# Altium footprint library ECE453_Power.PcbLib: 12 footprints
Each footprint in its own frame and in the unit in brackets; x right, y up, seen from the top. Pads: shape width x height; smd on the part's side, far side on the other; paste and mask are expansions set on the pad; w line width, h text height; cw(c..) or ccw(c..) is an arc to the next point about the centre after c.
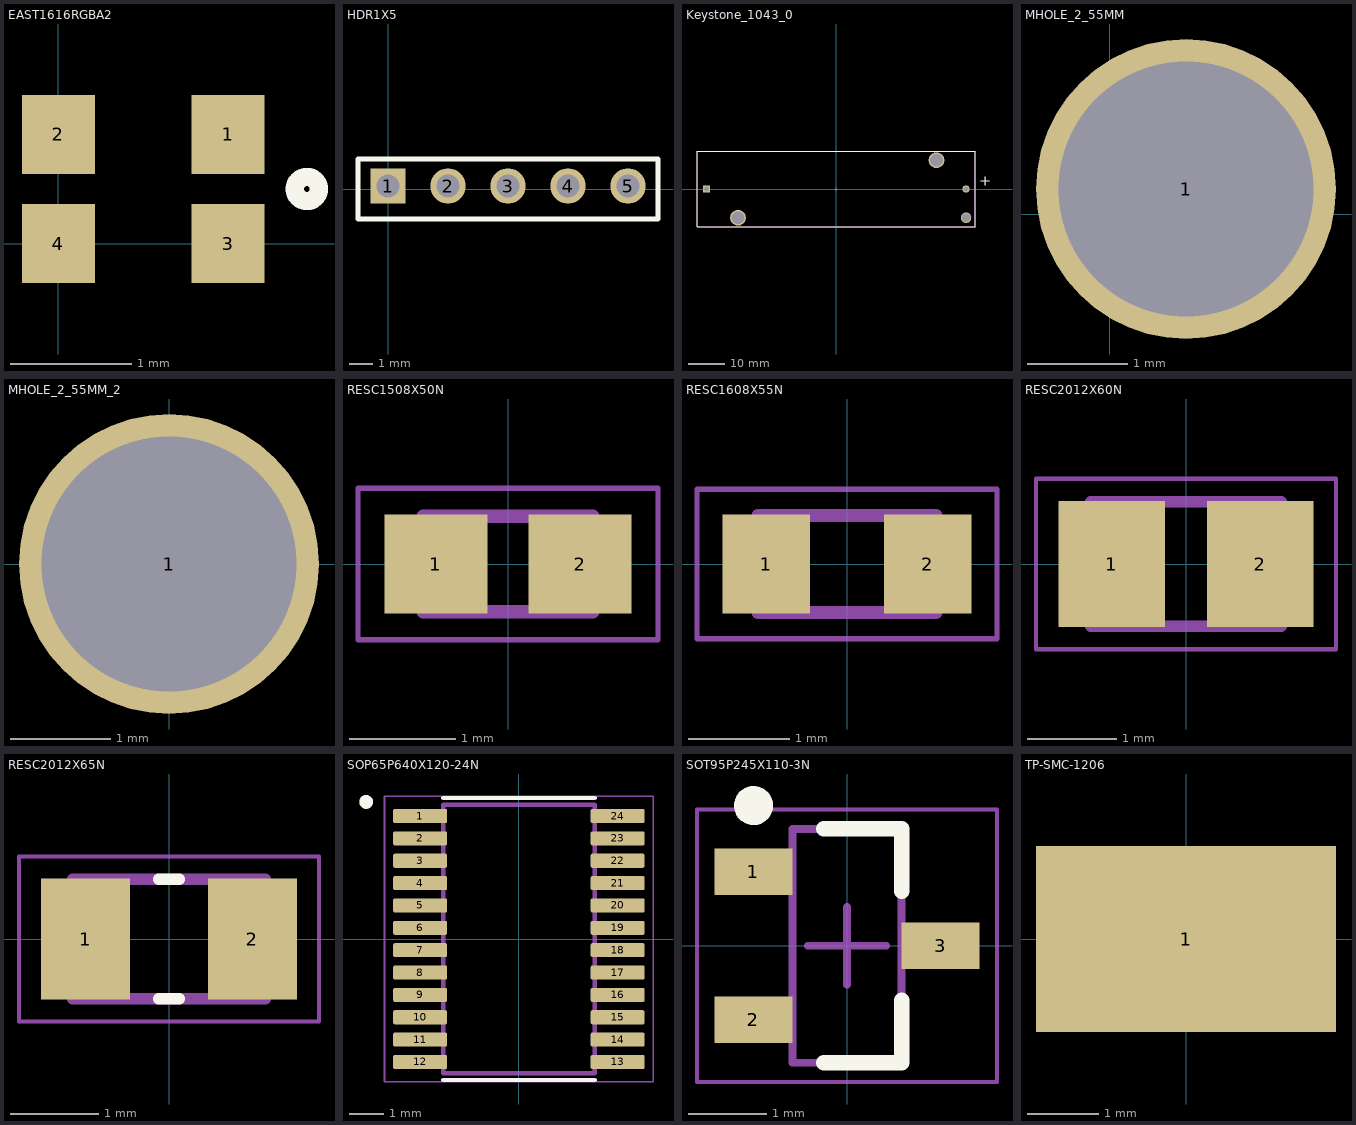
[diagram p0: the footprints below, top view; thin cyan lines are the x and y axes]

## EAST1616RGBA2 [mm] "EAST1616RGBA2 RBG LED"
height 0.35
pads (4):
  rect 0.6x0.65 smd: 1(1.4,0.9) 2(0,0.9) 3(1.4,0) 4(0,0)
Top Overlay:
  circle w0.15: c2.05,0.45 r0.1

## HDR1X5 [mm] "Connector; Header; 5 Position"
height 2.65
pads (5):
  rect 1.5x1.5 hole 0.991: 1(0,0.127)
  round 1.5 hole 0.991: 2(2.54,0.127) 3(5.08,0.127) 4(7.62,0.127) 5(10.16,0.127)
Top Overlay:
  lines w0.2: 10.16,-1.27 -1.27,-1.27 -1.27,1.27 10.16,1.27
  lines w0.203: 10.16,-1.27 11.43,-1.27 11.43,1.27 10.16,1.27
3D body "PREC005SAAN-RC.STEP": height 8.38, standoff -3.05, extent -1.27,-1.27 11.43,1.27

## Keystone_1043_0 [mil]
height 104.33
pads (5):
  rect 79.53x79.53 hole 52 paste-39370.1 mask+0: 1(-1422.5,0)
  round 79.53 hole 52 paste-39370.1 mask+0: 2(1422.5,0)
  round 175 hole 140 unplated paste-39370.1 mask+0: ""(-1076.5,-315) ""(1098.5,315)
  round 115 hole 94 unplated paste-39370.1 mask+0: ""(1422.5,-315)
Top Overlay:
  lines w7.87: -1522,-411.5 -1522,411.5 1522,411.5 1522,-411.5 -1522,-411.5
  text "+" at 1564.96,0 h196.85
Mechanical 10:
  lines w7.87: -1525.94,-415.44 -1525.94,415.44 1525.94,415.44 1525.94,-415.44 -1525.94,-415.44
  text ".Designator" at 0,0 h39.37
Mechanical 12:
  lines w5.91: -1522,-411.5 -1522,411.5 1522,411.5 1522,-411.5 -1522,-411.5
Mechanical 15:
  lines w3.94: -19.68,0 19.68,0 ; 0,-19.68 0,19.68
  lines w7.87: -1525.94,-415.44 -1525.94,415.44 1525.94,415.44 1525.94,-415.44 -1525.94,-415.44
3D body "Batt_Keystone_1043_eec.STEP": height 10, standoff 0, extent -1525.94,-415.44 1525.94,415.44

## MHOLE_2_55MM [mm]
height 2.65
pads (1):
  round 3 / inner round 4.572 / far side round 4.318 hole 2.55: 1(0.762,0.254)

## MHOLE_2_55MM_2 [mm]
pads (1):
  round 3 / inner round 4.572 / far side round 4.318 hole 2.55: 1(0,0)

## RESC1508X50N [mm]
pads (2):
  rect 0.97x0.93 smd: 1(-0.68,0) 2(0.68,0)
Mechanical 13:
  lines w0.127: -0.8,-0.45 -0.8,0.45 0.8,0.45 0.8,-0.45 -0.8,-0.45
Mechanical 15:
  lines w0.05: -1.415,-0.715 -1.415,0.715 1.415,0.715 1.415,-0.715 -1.415,-0.715

## RESC1608X55N [mm]
pads (2):
  rect 0.87x0.98 smd: 1(-0.8,0) 2(0.8,0)
Mechanical 13:
  lines w0.127: -0.88,-0.48 -0.88,0.48 0.88,0.48 0.88,-0.48 -0.88,-0.48
Mechanical 15:
  lines w0.05: -1.485,-0.74 -1.485,0.74 1.485,0.74 1.485,-0.74 -1.485,-0.74

## RESC2012X60N [mm]
pads (2):
  rect 1.2x1.42 smd: 1(-0.835,0) 2(0.835,0)
Mechanical 13:
  lines w0.127: -1.07,-0.7 1.07,-0.7 1.07,0.7 -1.07,0.7 -1.07,-0.7
Mechanical 15:
  lines w0.05: -1.685,-0.96 1.685,-0.96 1.685,0.96 -1.685,0.96 -1.685,-0.96

## RESC2012X65N [mm]
pads (2):
  rect 1.01x1.38 smd: 1(-0.95,0) 2(0.95,0)
Top Overlay:
  lines w0.127: -0.12,-0.68 0.12,-0.68 ; -0.12,0.68 0.12,0.68
Mechanical 13:
  lines w0.127: -1.1,-0.68 -1.1,0.68 1.1,0.68 1.1,-0.68 -1.1,-0.68
Mechanical 15:
  lines w0.05: -1.708,-0.94 -1.708,0.94 1.708,0.94 1.708,-0.94 -1.708,-0.94

## SOP65P640X120-24N [mm]
pads (24):
  rrect25% 1.57x0.41 smd: 1(-2.87,3.575) 2(-2.87,2.925) 3(-2.87,2.275) 4(-2.87,1.625) 5(-2.87,0.975) 6(-2.87,0.325) 7(-2.87,-0.325) 8(-2.87,-0.975) 9(-2.87,-1.625) 10(-2.87,-2.275) 11(-2.87,-2.925) 12(-2.87,-3.575) 13(2.87,-3.575) 14(2.87,-2.925) 15(2.87,-2.275) 16(2.87,-1.625) 17(2.87,-0.975) 18(2.87,-0.325) 19(2.87,0.325) 20(2.87,0.975) 21(2.87,1.625) 22(2.87,2.275) 23(2.87,2.925) 24(2.87,3.575)
Top Overlay:
  circle w0.2: c-4.44,3.985 r0.1
  lines w0.127: -2.2,-4.1 2.2,-4.1 ; -2.2,4.1 2.2,4.1
Mechanical 13:
  circle w0.2: c-4.44,3.985 r0.1
  lines w0.127: -2.2,-3.9 2.2,-3.9 2.2,3.9 -2.2,3.9 -2.2,-3.9
Mechanical 15:
  lines w0.05: -3.905,-4.15 3.905,-4.15 3.905,4.15 -3.905,4.15 -3.905,-4.15

## SOT95P245X110-3N [mm] "SOT23, 3-Leads, Body 2.90x2.45mm, Pitch 0.95mm, IPC Medium Density"
height 1.1
pads (3):
  rect 1x0.6 smd: 1(-1.2,0.95) 2(-1.2,-0.95) 3(1.2,0)
Top Overlay:
  circle w0.25: c-1.2,1.8 r0.125
  lines w0.2: -0.3,-1.5 0.7,-1.5 0.7,-0.7 ; -0.3,1.5 0.7,1.5 0.7,0.7
Mechanical 13:
  lines w0.1: -0.7,-1.5 -0.7,1.5 0.7,1.5 0.7,-1.5 -0.7,-1.5
Mechanical 15:
  lines w0.05: -1.925,-1.75 -1.925,1.75 1.925,1.75 1.925,-1.75 -1.925,-1.75
  lines w0.1: -0.5,0 0.5,0 ; 0,-0.5 0,0.5
3D body: height 1.1, standoff 0.05, extent -0.7,-1.5 0.7,1.5

## TP-SMC-1206 [mm]
pads (1):
  rect 4.2x2.6 smd mask+0: 1(0,0)
3D body "c-1625854-1-ba-3d.stp": height 1.22, standoff -0.03, extent -1.575,-0.787 1.625,0.813